# Altium footprint library PCB_Layout.PcbLib: 19 footprints (part 1 of 2)
Each footprint in its own frame and in the unit in brackets; x right, y up, seen from the top. Pads: shape width x height; smd on the part's side, far side on the other; paste and mask are expansions set on the pad; w line width, h text height; cw(c..) or ccw(c..) is an arc to the next point about the centre after c.
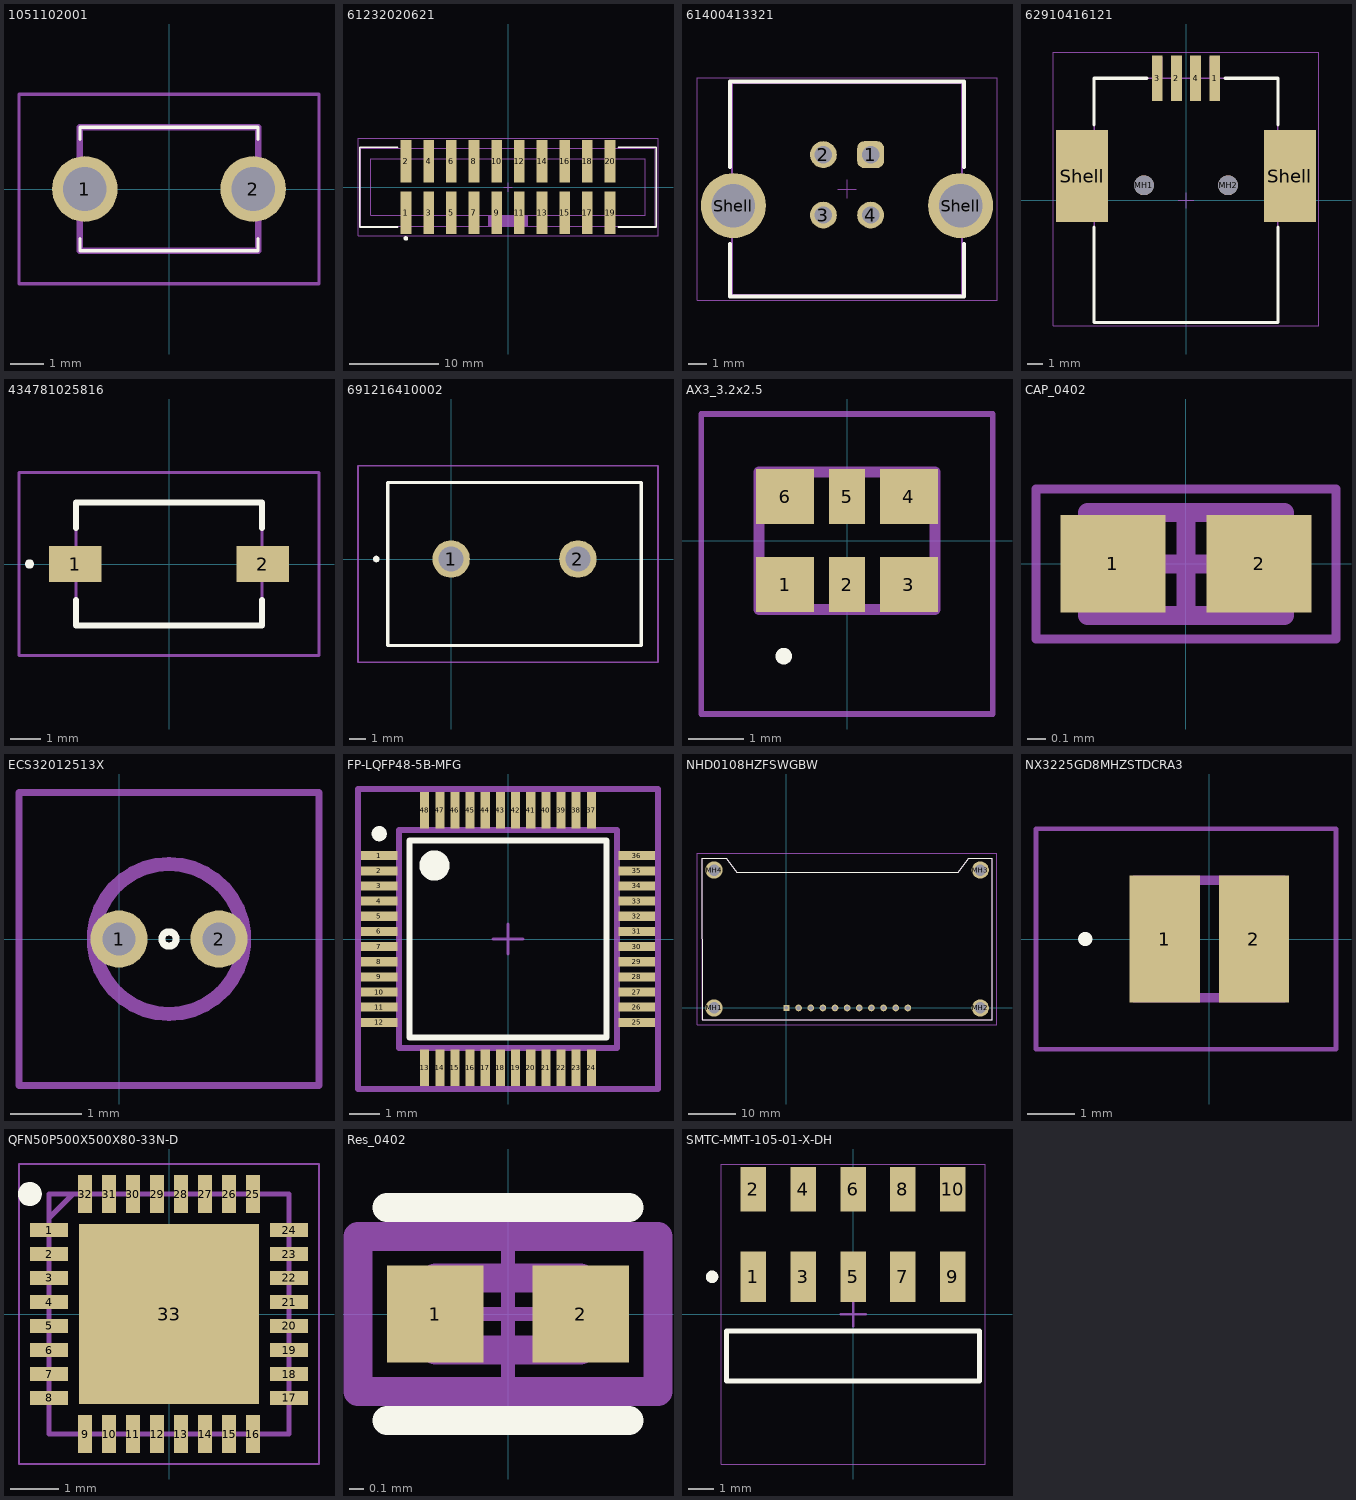
[diagram p0: the footprints below, top view; thin cyan lines are the x and y axes]

## 1051102001 [mm]
pads (2):
  round 1.98 hole 1.32: 1(-2.54,0) 2(2.54,0)
Top Overlay:
  lines w0.1: -2.69,-1.5 -2.69,-1.865 2.69,-1.865 2.69,-1.5 ; -2.69,1.5 -2.69,1.865 2.69,1.865 2.69,1.5
Top 3D Body:
  lines w0.2: -2.69,-1.865 -2.69,1.865 2.69,1.865 2.69,-1.865 -2.69,-1.865
Top Courtyard:
  lines w0.1: -4.53,-2.865 -4.53,2.865 4.53,2.865 4.53,-2.865 -4.53,-2.865
3D body "105-1102-001.stp": height 5.65, standoff -2.68, extent -2.692,-1.867 2.692,1.867

## 61232020621 [mm] "WR-BHD 2.54mm Male SMT Box Header (Reel), 20p"
height 9.1
pads (20):
  rect 1.2x4.75 smd: 1(-11.43,-2.875) 2(-11.43,2.875) 3(-8.89,-2.875) 4(-8.89,2.875) 5(-6.35,-2.875) 6(-6.35,2.875) 7(-3.81,-2.875) 8(-3.81,2.875) 9(-1.27,-2.875) 10(-1.27,2.875) 11(1.27,-2.875) 12(1.27,2.875) 13(3.81,-2.875) 14(3.81,2.875) 15(6.35,-2.875) 16(6.35,2.875) 17(8.89,-2.875) 18(8.89,2.875) 19(11.43,-2.875) 20(11.43,2.875)
Top Overlay:
  circle w0.25: c-11.45,-5.75 r0.125
  lines w0.2: -12.35,-4.475 -16.61,-4.475 -16.61,4.475 -12.35,4.475 ; 12.35,-4.475 16.61,-4.475 16.61,4.475 12.35,4.475
Top Designator:
  text ".Designator" at -7.498,-0.5 h1.5
Top Component Outline:
  rectangle: -2.25,-4.375 2.25,-3.15
  lines w0.1: -16.51,-4.375 16.51,-4.375 16.51,4.375 -16.51,4.375 -16.51,-4.375 ; -15.36,-3.15 -15.36,3.15 15.36,3.15 15.36,-3.15 -15.36,-3.15
Top Courtyard:
  lines w0.05: -0.5,0 0.5,0 ; 0,-0.5 0,0.5 ; -16.8,-5.45 16.8,-5.45 16.8,5.45 -16.8,5.45 -16.8,-5.45
3D body "61232020621.stp": height 11.35, standoff 0.03, extent -16.51,-4.75 16.51,4.88

## 61400413321 [mm] "USB 2.0 Type B Vertical"
height 16.1
pads (6):
  rrect50% 1.42x1.42 hole 0.92: 1(-1268.75,-1268.18)
  round 1.42 hole 0.92: 2(-1271.25,-1268.18) 3(-1271.25,-1271.38) 4(-1268.75,-1271.38)
  round 3.45 hole 2.3: Shell(-1276.02,-1270.88) Shell(-1263.98,-1270.88)
Top Overlay:
  lines w0.2: -1276.2,-1272.91 -1276.2,-1275.7 -1263.8,-1275.7 -1263.8,-1272.91 ; -1276.2,-1268.85 -1276.2,-1264.3 -1263.8,-1264.3 -1263.8,-1268.85
Top Designator:
  text ".Designator" at -1277.498,-1270.5 h1.5
Top Component Outline:
  lines w0.1: -1276.1,-1275.6 -1276.1,-1264.4 -1263.9,-1264.4 -1263.9,-1275.6 -1276.1,-1275.6
Top 3D Body:
  lines w0.1: -1276.1,-1275.6 -1263.9,-1275.6 -1263.9,-1264.4 -1276.1,-1264.4 -1276.1,-1275.6
Top Courtyard:
  lines w0.05: -1270.5,-1270 -1269.5,-1270 ; -1270,-1270.5 -1270,-1269.5 ; -1277.945,-1275.9 -1262.055,-1275.9 -1262.055,-1264.1 -1277.945,-1264.1 -1277.945,-1275.9
3D body "61400413321.stp": height 16.2, standoff -4.12, extent -1277.35,-1275.6 -1262.65,-1264.4

## 62910416121 [mm] "USB 2.0 Type B SMT Horizontal"
height 11.5
pads (8):
  rect 0.7x3 smd: 1(1.875,8) 2(-0.625,8) 3(-1.875,8) 4(0.625,8)
  round 1.3 hole 1.3 unplated: MH1(-2.75,1) MH2(2.75,1)
  rect 3.4x6.04 smd: Shell(-6.8,1.6) Shell(6.8,1.6)
Top Overlay:
  lines w0.2: -6.02,-1.75 -6.02,-8 6.02,-8 6.02,-1.75 ; -6.02,4.95 -6.02,8 -2.55,8 ; 2.55,8 6.02,8 6.02,4.95
Top Designator:
  text ".Designator" at -7.498,-0.5 h1.5
Top Component Outline:
  lines w0.1: -6.02,-0.75 -8.1,-0.75 -8.1,3.95 -6.02,3.95 ; -2.175,8 -2.175,9.39 -1.575,9.39 -1.575,8 ; -0.925,8 -0.925,9.39 -0.325,9.39 -0.325,8 ; 0.325,8 0.325,9.39 0.925,9.39 0.925,8 ; 1.575,8 1.575,9.39 2.175,9.39 2.175,8 ; 6,8 -6.02,8 -6.02,-8 6.02,-8 6.02,8 ; 6.02,-0.75 8.1,-0.75 8.1,3.95 6.02,3.95
Top 3D Body:
  lines w0.1: -6.02,-0.75 -8.1,-0.75 -8.1,3.95 -6.02,3.95 ; -2.175,8 -2.175,9.39 -1.575,9.39 -1.575,8 ; -0.925,8 -0.925,9.39 -0.325,9.39 -0.325,8 ; 0.325,8 0.325,9.39 0.925,9.39 0.925,8 ; 1.575,8 1.575,9.39 2.175,9.39 2.175,8 ; 6,8 -6.02,8 -6.02,-8 6.02,-8 6.02,8 ; 6.02,-0.75 8.1,-0.75 8.1,3.95 6.02,3.95
Top Courtyard:
  lines w0.05: -0.5,0 0.5,0 ; 0,-0.5 0,0.5 ; -8.7,-8.2 -8.7,9.7 8.7,9.7 8.7,-8.2 -8.7,-8.2
3D body "62910416121.stp": height 11.16, standoff -0.81, extent -8.1,-8 8.1,9.388

## 434781025816 [mm]
pads (2):
  rect 1.75x1.2 smd: 1(-3.125,0) 2(3.125,0)
Top Overlay:
  lines w0.2: -3.1,-1.2 -3.1,-2.05 3.1,-2.05 3.1,-1.2 ; -3.1,1.2 -3.1,2.05 3.1,2.05 3.1,1.2 ; -4.7,0 ccw(c-4.65,0) -4.6,0 ; -4.7,0 cw(c-4.65,0) -4.6,0 ; -4.7,0 ccw(c-4.65,0) -4.6,0
Top 3D Body:
  lines w0.1: -3.1,-2.05 3.1,-2.05 3.1,2.05 -3.1,2.05 -3.1,-2.05
Top Courtyard:
  lines w0.1: -5,-3.05 5,-3.05 5,3.05 -5,3.05 -5,-3.05
3D body "434781025816.stp": height 2.5, standoff 0, extent -3.65,-2.1 3.65,2.1

## 691216410002 [mm]
pads (2):
  round 2.25 hole 1.5: 1(0,0) 2(7.62,0)
Top Overlay:
  lines w0.2: -4.5,-0.1 ccw(c-4.5,0) -4.5,0.1 ccw(c-4.5,0) -4.5,-0.1 ; -3.81,-5.2 -3.81,4.6 11.43,4.6 11.43,-5.2 -3.81,-5.2
Top 3D Body:
  lines w0.1: -3.81,-5.2 -3.81,4.6 11.43,4.6 11.43,-5.2 -3.81,-5.2
Top Courtyard:
  lines w0.1: -5.6,-6.2 -5.6,5.6 12.43,5.6 12.43,-6.2 -5.6,-6.2
3D body "691216410002.stp": height 14, standoff -5, extent -3.81,-5.2 11.43,4.6

## AX3_3.2x2.5 [mm]
pads (6):
  rect 1.05x1 smd: 1(-1.125,-0.8) 3(1.125,-0.8) 4(1.125,0.8) 6(-1.125,0.8)
  rect 0.65x1 smd: 2(0,-0.8) 5(0,0.8)
Top Overlay:
  lines w0.2: -1.2,-2.1 ccw(c-1.15,-2.1) -1.1,-2.1 ; -1.2,-2.1 cw(c-1.15,-2.1) -1.1,-2.1 ; -1.2,-2.1 ccw(c-1.15,-2.1) -1.1,-2.1
Top 3D Body:
  lines w0.2: -1.6,-1.25 1.6,-1.25 1.6,1.25 -1.6,1.25 -1.6,-1.25
Top Courtyard:
  lines w0.1: -2.65,-3.15 2.65,-3.15 2.65,2.3 -2.65,2.3 -2.65,-3.15
3D body "AX3PAF1-125.0000.stp": height 1, standoff 0, extent -1.6,-1.19 1.6,1.31

## CAP_0402 [mm] "Chip Capacitor, 2-Leads, Body 1.00x0.50mm, IPC High Density"
height 0.55
pads (2):
  rect 0.56x0.52 smd: 1(-0.39,0) 2(0.39,0)
Top 3D Body:
  lines w0.1: -0.525,-0.275 -0.525,0.275 0.525,0.275 0.525,-0.275 -0.525,-0.275
Top Courtyard:
  lines w0.05: -0.8,-0.4 -0.8,0.4 0.8,0.4 0.8,-0.4 -0.8,-0.4
  lines w0.1: -0.275,0 0.275,0 ; 0,-0.275 0,0.275
3D body: height 0.55, standoff 0, extent -0.275,-0.275 0.275,0.275
3D body: height 0.55, standoff 0, extent -0.525,-0.275 -0.275,0.275
3D body: height 0.55, standoff 0, extent 0.275,-0.275 0.525,0.275

## ECS32012513X [mm]
pads (2):
  round 0.8 hole 0.46: 1(0,0) 2(1.4,0)
Top Overlay:
  lines w0.1: 0.7,-0.1 ccw(c0.7,0) 0.7,0.1 ccw(c0.7,0) 0.7,-0.1
Top 3D Body:
  lines w0.2: 0.7,-1.05 ccw(c0.7,0) 0.7,1.05 ccw(c0.7,0) 0.7,-1.05
Top Courtyard:
  lines w0.1: -1.4,-2.05 -1.4,2.05 2.8,2.05 2.8,-2.05 -1.4,-2.05
3D body "ECS-.320-12.5-13X.stp": height 7.75, standoff -8.45, extent -0.342,-1.05 1.742,1.05

## FP-LQFP48-5B-MFG [mm]
pads (48):
  rect 1.2x0.3 smd paste+0 mask+0: 1(-4.25,2.75) 2(-4.25,2.25) 3(-4.25,1.75) 4(-4.25,1.25) 5(-4.25,0.75) 6(-4.25,0.25) 7(-4.25,-0.25) 8(-4.25,-0.75) 9(-4.25,-1.25) 10(-4.25,-1.75) 11(-4.25,-2.25) 12(-4.25,-2.75) 25(4.25,-2.75) 26(4.25,-2.25) 27(4.25,-1.75) 28(4.25,-1.25) 29(4.25,-0.75) 30(4.25,-0.25) 31(4.25,0.25) 32(4.25,0.75) 33(4.25,1.25) 34(4.25,1.75) 35(4.25,2.25) 36(4.25,2.75)
  rect 0.3x1.2 smd paste+0 mask+0: 13(-2.75,-4.25) 14(-2.25,-4.25) 15(-1.75,-4.25) 16(-1.25,-4.25) 17(-0.75,-4.25) 18(-0.25,-4.25) 19(0.25,-4.25) 20(0.75,-4.25) 21(1.25,-4.25) 22(1.75,-4.25) 23(2.25,-4.25) 24(2.75,-4.25) 37(2.75,4.25) 38(2.25,4.25) 39(1.75,4.25) 40(1.25,4.25) 41(0.75,4.25) 42(0.25,4.25) 43(-0.25,4.25) 44(-0.75,4.25) 45(-1.25,4.25) 46(-1.75,4.25) 47(-2.25,4.25) 48(-2.75,4.25)
Top Overlay:
  circle w0.25: c-4.25,3.475 r0.125
  circle w0.5: c-2.425,2.425 r0.25
  lines w0.2: -3.25,-3.25 3.25,-3.25 3.25,3.25 -3.25,3.25 -3.25,-3.25
Top Component Center:
  lines w0.1: -0.5,0 0.5,0 ; 0,-0.5 0,0.5
Top Assembly:
  lines w0.2: -4.95,-4.95 4.95,-4.95 4.95,4.95 -4.95,4.95 -4.95,-4.95
  text ".Designator" at 0,-0.001 h1
Top 3D Body:
  lines w0.2: -3.6,-3.6 3.6,-3.6 3.6,3.6 -3.6,3.6 -3.6,-3.6
Top Courtyard:
  lines w0.2: -4.95,-4.95 4.95,-4.95 4.95,4.95 -4.95,4.95 -4.95,-4.95
3D body "IC_STMicroelectronics_STM32L433CCT6_eec.STEP": height 0.25, standoff 0, extent -4.95,-4.95 4.95,4.95

## NHD0108HZFSWGBW [mm]
pads (15):
  rect 1.2x1.2 hole 0.75: 1(0,0)
  round 1.4 hole 0.9: 2(2.54,0) 3(5.08,0) 4(7.62,0) 5(10.16,0) 6(12.7,0) 7(15.24,0) 8(17.78,0) 9(20.32,0) 10(22.86,0) 11(25.4,0)
  round 3.6 hole 2.4: MH1(-15.15,0) MH2(40.55,0) MH3(40.55,28.85) MH4(-15.15,28.85)
Top Overlay:
  lines w0.1: -17.715,31.35 -17.65,-2.5 43.05,-2.5 43.05,31.35 38.165,31.35 35.925,28.35 -10.395,28.35 -12.635,31.35 -17.715,31.35
Top 3D Body:
  lines w0.2: -17.65,-2.5 43.05,-2.5 43.05,31.35 38.165,31.35 35.925,28.35 -10.395,28.35 -12.635,31.35 -17.65,31.35 -17.65,-2.5
Top Courtyard:
  lines w0.1: -18.715,-3.5 -18.715,32.35 44.05,32.35 44.05,-3.5 -18.715,-3.5
3D body "NHD-0108HZ-FSW-GBW.stp": height 7.72, standoff -2.03, extent -17.82,-2.425 42.88,31.425

## NX3225GD8MHZSTDCRA3 [mm]
pads (2):
  rect 1.5x2.7 smd: 1(-0.95,0) 2(0.95,0)
Top Overlay:
  lines w0.2: -2.7,0 ccw(c-2.65,0) -2.6,0 ; -2.7,0 cw(c-2.65,0) -2.6,0 ; -2.7,0 ccw(c-2.65,0) -2.6,0
Top 3D Body:
  lines w0.2: -1.6,-1.25 1.6,-1.25 1.6,1.25 -1.6,1.25 -1.6,-1.25
Top Courtyard:
  lines w0.1: -3.7,-2.35 2.7,-2.35 2.7,2.35 -3.7,2.35 -3.7,-2.35
3D body "NX3225GD-8MHZ-STD-CRA-3.stp": height 1, standoff 0, extent -1.6,-1.25 1.6,1.25

## PCBComponent_1 [mm]

## QFN50P500X500X80-33N-D [mm]
pads (33):
  rect 0.8x0.3 smd: 1(-2.5,1.75) 2(-2.5,1.25) 3(-2.5,0.75) 4(-2.5,0.25) 5(-2.5,-0.25) 6(-2.5,-0.75) 7(-2.5,-1.25) 8(-2.5,-1.75) 17(2.5,-1.75) 18(2.5,-1.25) 19(2.5,-0.75) 20(2.5,-0.25) 21(2.5,0.25) 22(2.5,0.75) 23(2.5,1.25) 24(2.5,1.75)
  rect 0.3x0.8 smd: 9(-1.75,-2.5) 10(-1.25,-2.5) 11(-0.75,-2.5) 12(-0.25,-2.5) 13(0.25,-2.5) 14(0.75,-2.5) 15(1.25,-2.5) 16(1.75,-2.5) 25(1.75,2.5) 26(1.25,2.5) 27(0.75,2.5) 28(0.25,2.5) 29(-0.25,2.5) 30(-0.75,2.5) 31(-1.25,2.5) 32(-1.75,2.5)
  rect 3.75x3.75 smd: 33(0,0)
Top Overlay:
  circle w0.25: c-2.9,2.5 r0.125
Top 3D Body:
  lines w0.1: -2.5,2 -2,2.5 ; -2.5,-2.5 2.5,-2.5 2.5,2.5 -2.5,2.5 -2.5,-2.5
Top Courtyard:
  lines w0.05: -3.125,-3.125 3.125,-3.125 3.125,3.125 -3.125,3.125 -3.125,-3.125
3D body "ADF5355BCPZ.stp": height 0.8, standoff 0, extent -2.55,-2.55 2.55,2.55

## Res_0402 [mm]
pads (2):
  rect 0.668x0.672 smd paste+0 mask+0: 1(-0.502,0) 2(0.502,0)
Top Overlay:
  lines w0.2: -0.836,-0.736 0.836,-0.736 ; -0.836,0.736 0.836,0.736
Top Component Center:
  lines w0.1: -0.5,0 0.5,0 ; 0,-0.5 0,0.5
Top Assembly:
  lines w0.2: -1.036,-0.536 -1.036,0.536 1.036,0.536 1.036,-0.536 -1.036,-0.536
  text ".Designator" at 0,0.188 h1
Top 3D Body:
  lines w0.2: -0.5,-0.25 -0.5,0.25 0.5,0.25 0.5,-0.25 -0.5,-0.25
Top Courtyard:
  lines w0.2: -1.036,-0.536 -1.036,0.536 1.036,0.536 1.036,-0.536 -1.036,-0.536
3D body "Res_Vishay_CRCW04021K00FKED_eec.STEP": height 0.25, standoff 0, extent -1.036,-0.536 1.036,0.536

## SMTC-MMT-105-01-X-DH [mm] "Terminal Surface Mount Strip ASSEM, 2x5 Pins, Horizontal, 2mm Pitch, Male"
height 4
pads (10):
  rect 1.02x2.03 smd: 1(-4,1.491) 3(-2,1.491) 5(0,1.491) 7(2,1.491) 9(4,1.491)
  rect 1.02x1.78 smd: 2(-4,4.996) 4(-2,4.996) 6(0,4.996) 8(2,4.996) 10(4,4.996)
Top Overlay:
  circle w0.25: c-5.65,1.491 r0.125
  lines w0.2: -5.065,-2.684 5.065,-2.684 5.065,-0.684 -5.065,-0.684 -5.065,-2.684
Top 3D Body:
  lines w0.1: -5.065,-2.684 -5.065,-0.684 5.065,-0.684 5.065,-2.684 -5.065,-2.684
Top Courtyard:
  lines w0.05: -5.29,-6.01 5.29,-6.01 5.29,6.011 -5.29,6.011 -5.29,-6.01
  lines w0.1: -0.5,0 0.5,0 ; 0,-0.5 0,0.5
3D body "MMT-105-01-X-DH.step": height 3.92, standoff -0.08, extent -5,-5.885 5,5.538